# Altium footprint library Leonardo_Rev3d.PcbLib: 28 footprints (part 1 of 2)
Each footprint in its own frame and in the unit in brackets; x right, y up, seen from the top. Pads: shape width x height; smd on the part's side, far side on the other; paste and mask are expansions set on the pad; w line width, h text height; cw(c..) or ccw(c..) is an arc to the next point about the centre after c.
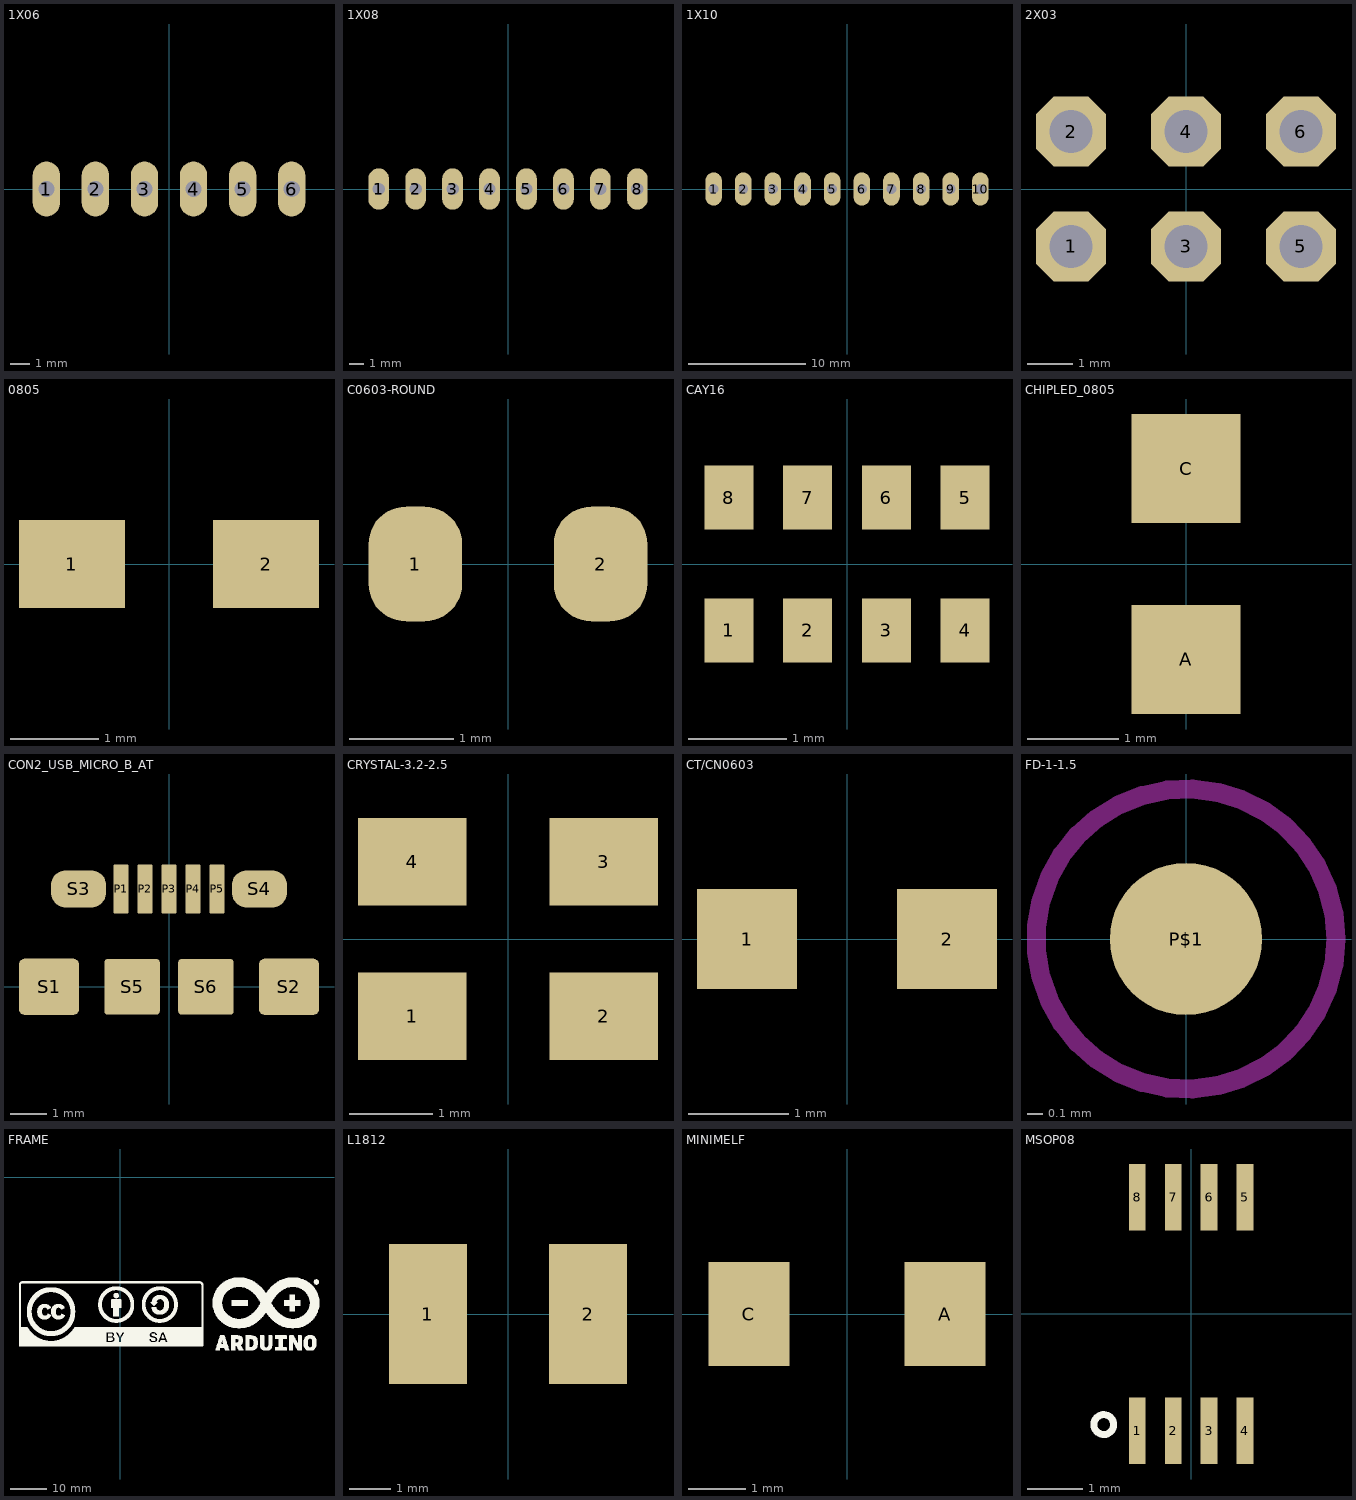
[diagram p0: the footprints below, top view; thin cyan lines are the x and y axes]

## 1X06 [mil] "1X06"
pads (6):
  oval 56x112 hole 33.46: 1(-250,0) 2(-150,0) 3(-50,0) 4(50,0) 5(150,0) 6(250,0)

## 1X08 [mil] "1X08"
pads (8):
  oval 56x112 hole 33.46: 1(-350,0) 2(-250,0) 3(-150,0) 4(-50,0) 5(50,0) 6(150,0) 7(250,0) 8(350,0)

## 1X10 [mil] "1X10"
pads (10):
  oval 56x112 hole 33.46: 1(-450,0) 2(-350,0) 3(-250,0) 4(-150,0) 5(-50,0) 6(50,0) 7(150,0) 8(250,0) 9(350,0) 10(450,0)

## 2X03 [mm] "2X03"
pads (6):
  oct 1.55x1.55 / inner round 1.432 / far side oct 1.55x1.55 hole 0.95: 1(-2.54,-1.27) 2(-2.54,1.27) 3(0,-1.27) 4(0,1.27) 5(2.54,-1.27) 6(2.54,1.27)

## 0805 [mm] "0805"
pads (2):
  rect 1.2x1 smd: 1(-1.1,0) 2(1.1,0)

## C0603-ROUND [mil] "C0603-ROUND"
pads (2):
  rrect80% 35.37x43.31 smd: 1(-35,0) 2(35,0)

## CAY16 [mm] "CAY16"
pads (8):
  rect 0.5x0.65 smd: 1(-1.2,-0.675) 2(-0.4,-0.675) 3(0.4,-0.675) 4(1.2,-0.675) 5(1.2,0.675) 6(0.4,0.675) 7(-0.4,0.675) 8(-1.2,0.675)

## CHIPLED_0805 [mm] "CHIPLED_0805"
pads (2):
  rect 1.2x1.2 smd: A(0,-1.05) C(0,1.05)

## CON2_USB_MICRO_B_AT [mil] "CON2_USB_MICRO_B_AT"
pads (11):
  rrect10% 16x53 smd: P1(-52,106) P2(-26,106) P3(0,106) P4(26,106) P5(52,106)
  rrect20% 65x61 smd paste-32.5: S1(-130,0) S2(130,0)
  rrect80% 60x40 smd paste-30: S3(-98,106) S4(98,106)
  rrect10% 60x60 smd: S5(-40,0) S6(40,0)
Top Paste:
  lines w5: -155,-23 -155,23 ; -121,-25 -121,26 -117,26 ; -116,26 -117,26 ; -114,93 cw(c-114,98) -119,98 -120,113 cw(c-114,113) -114,119 ; -106,25 -106,-25 -108,-25 -108,25 -112,25 -112,-25 -117,-25 -117,26 ; -82,93 ccw(c-82,98) -77,98 -77,114 ccw(c-82,114) -82,119 ; 81,94 cw(c81,99) 76,99 76,113 cw(c81,113) 81,118 ; 106,23 106,-23 111,-23 111,23 116,23 116,-24 120,-24 ccw(c120,-23) 121,-23 121,24 ; 114,93 ccw(c114,98) 119,98 119,114 ccw(c114,114) 114,119 ; 154,-23 154,23 ; -159,-17 ccw(c-149,-17) -149,-27 -111,-27 ccw(c-111,-17) -101,-17 -101,17 ccw(c-111,17) -111,27 -149,27 ccw(c-149,17) -159,17 -159,-17 ; -124,99 ccw(c-114,99) -114,89 -82,89 ccw(c-82,99) -72,99 -72,113 ccw(c-82,113) -82,123 -114,123 ccw(c-114,113) -124,113 -124,99 ; 72,99 ccw(c82,99) 82,89 114,89 ccw(c114,99) 124,99 124,113 ccw(c114,113) 114,123 82,123 ccw(c82,113) 72,113 72,99 ; 102,-17 ccw(c112,-17) 112,-27 148,-27 ccw(c148,-17) 158,-17 158,17 ccw(c148,17) 148,27 112,27 ccw(c112,17) 102,17 102,-17

## CRYSTAL-3.2-2.5 [mm] "CRYSTAL-3.2-2.5"
pads (4):
  rect 1.3x1.05 smd: 1(-1.15,-0.925) 2(1.15,-0.925) 3(1.15,0.925) 4(-1.15,0.925)

## CT/CN0603 [mm] "CT/CN0603"
pads (2):
  rect 1x1 smd: 1(-1,0) 2(1,0)

## FD-1-1.5 [mil] "FD-1-1.5"
pads (1):
  rrect100% 40x40 smd paste-20: P$1(0,0)
Top Solder:
  circle w47.24: c0,0 r19.69
Keep-Out Layer:
  circle w5: c0,0 r39.37

## FRAME [mm] "FRAME"
Top Overlay:
  drawing of 6280 lines, arcs and shapes, not listed
Mechanical 20:
  text "ARDUINO and other Arduino brands and logos and Trademarks of Arduino SA. All Arduino SA Trademarks cannot be used without owner's formal permission" at -78.74,-25.4 h1.28
  text "The product information on the Web Site or Materials is subject to change without notice. Do not finalize a design with this info" at -78.74,-20.9 h1.28
  text "these for future definition and shall have no responsibility whatsoever for conflicts or incompatibilities arising from future changes to them." at -78.74,-18.649 h1.28
  text "rely on the absence or characteristics of any features or instructions marked \"reserved\" or \"undefined.\" Arduino SA reserves" at -78.74,-16.399 h1.28
  text "Arduino SA may make changes to specifications and product descriptions at any time, without notice. The Customer must not" at -78.74,-14.149 h1.28
  text "REGARDING PRODUCTS, INCLUDING BUT NOT LIMITED TO, ANY IMPLIED WARRANTIES OF MERCHANTABILITY OR FITNESS FOR A PARTICULAR PURPOSE" at -78.74,-9.649 h1.28
  text "Reference Designs ARE PROVIDED \"AS IS\" AND \"WITH ALL FAULTS. Arduino SA DISCLAIMS ALL OTHER WARRANTIES, EXPRESS OR IMPLIED," at -78.74,-7.399 h1.28

## L1812 [mm] "L1812"
pads (2):
  rect 1.9x3.4 smd: 1(-1.95,0) 2(1.95,0)

## MINIMELF [mm] "MINIMELF"
pads (2):
  rect 1.4x1.8 smd: A(1.7,0) C(-1.7,0)

## MSOP08 [mm] "MSOP08"
pads (8):
  rect 0.3x1.2 smd: 1(-0.976,-2.113) 2(-0.326,-2.113) 3(0.324,-2.113) 4(0.974,-2.113) 5(0.974,2.112) 6(0.324,2.112) 7(-0.326,2.112) 8(-0.976,2.112)
Top Overlay:
  circle w0.127: c-1.58,-2 r0.18